# EAGLE library part ARDUINO_MICRO (library aruduinos)
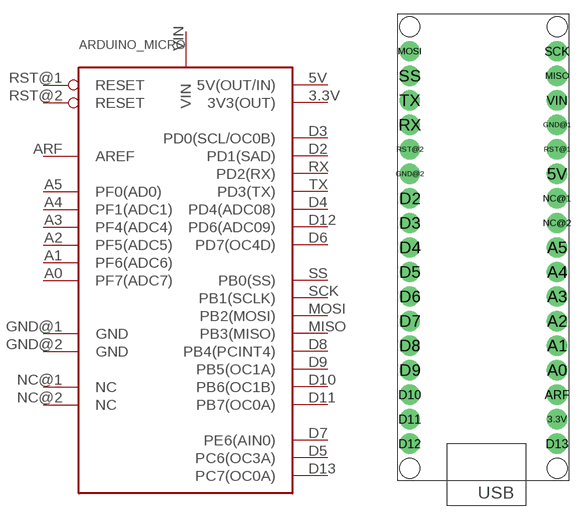
[diagram p2: symbol with the pads of ARDUINO_MICRO_NEW; footprint ARDUINO_MICRO_NEW]

Designator prefix -

## ARDUINO_MICRO  [ARDUINO_MICRO_NEW]
3.3V  3V3(OUT)
5V  5V(OUT/IN)
A0  PF7(ADC7)
A1  PF6(ADC6)
A2  PF5(ADC5)
A3  PF4(ADC4)
A4  PF1(ADC1)
A5  PF0(AD0)
ARF  AREF
D2  PD1(SAD)
D3  PD0(SCL/OC0B)
D4  PD4(ADC08)
D5  PC6(OC3A)
D6  PD7(OC4D)
D7  PE6(AIN0)
D8  PB4(PCINT4)
D9  PB5(OC1A)
D10  PB6(OC1B)
D11  PB7(OC0A)
D12  PD6(ADC09)
D13  PC7(OC0A)
GND@1  GND
GND@2  GND
MISO  PB3(MISO)
MOSI  PB2(MOSI)
NC@1  NC
NC@2  NC
RST@1  RESET
RST@2  RESET
RX  PD2(RX)
SCK  PB1(SCLK)
SS  PB0(SS)
TX  PD3(TX)
VIN  VIN

## Footprint ARDUINO_MICRO_NEW (pad centres in mm)
drill 1.4: 3.3V 7.62,-15.24; 5V 7.62,10.16; A0 7.62,-10.16; A1 7.62,-7.62; A2 7.62,-5.08; A3 7.62,-2.54; A4 7.62,0; A5 7.62,2.54; ARF 7.62,-12.7; D2 -7.62,7.62; D3 -7.62,5.08; D4 -7.62,2.54; D5 -7.62,0; D6 -7.62,-2.54; D7 -7.62,-5.08; D8 -7.62,-7.62; D9 -7.62,-10.16; D10 -7.62,-12.7; D11 -7.62,-15.24; D12 -7.62,-17.78; D13 7.62,-17.78; GND@1 7.62,15.24; GND@2 -7.62,10.16; MISO 7.62,20.32; MOSI -7.62,22.86; NC@1 7.62,7.62; NC@2 7.62,5.08; RST@1 7.62,12.7; RST@2 -7.62,12.7; RX -7.62,15.24; SCK 7.62,22.86; SS -7.62,20.32; TX -7.62,17.78; VIN 7.62,17.78